# Altium footprint library 5013311207.PcbLib: 1 footprints
Each footprint in its own frame and in the unit in brackets; x right, y up, seen from the top. Pads: shape width x height; smd on the part's side, far side on the other; paste and mask are expansions set on the pad; w line width, h text height; cw(c..) or ccw(c..) is an arc to the next point about the centre after c.
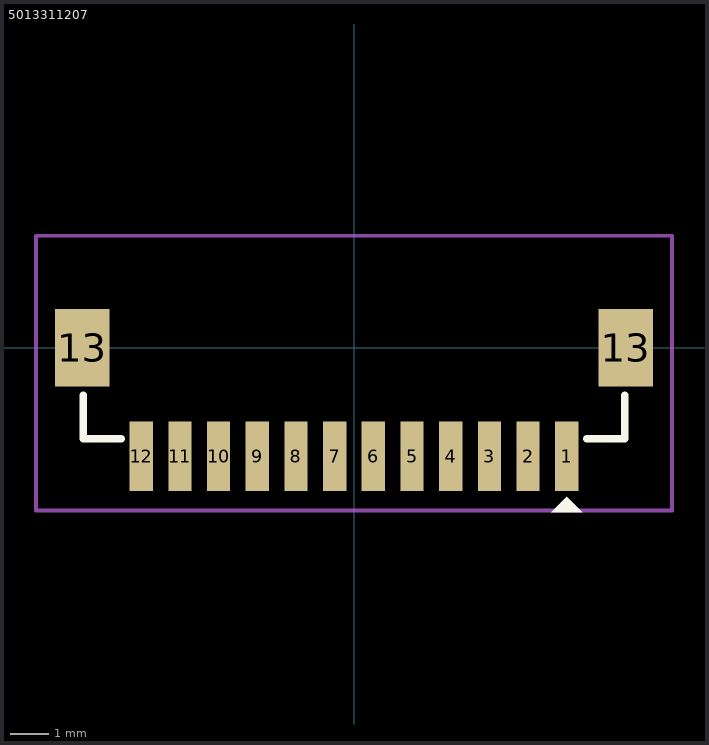
[diagram p0: the footprint, top view; thin cyan lines are the x and y axes]

## 5013311207 [mm]
pads (14):
  rect 0.6x1.8 smd: 1(5.5,-2.8) 2(4.5,-2.8) 3(3.5,-2.8) 4(2.5,-2.8) 5(1.5,-2.8) 6(0.5,-2.8) 7(-0.5,-2.8) 8(-1.5,-2.8) 9(-2.5,-2.8) 10(-3.5,-2.8) 11(-4.5,-2.8) 12(-5.5,-2.8)
  rect 1.4x2 smd: 13(-7.025,0) 13(7.025,0)
Top Overlay:
  region: 5.9,-4.25 5.1,-4.25 5.5,-3.85
  lines w0.2: -7,-1.225 -7,-2.35 -6.025,-2.35 ; 6.025,-2.35 7,-2.35 7,-1.225
Top Courtyard:
  lines w0.1: -8.225,-1 -8.225,-4.2 ; -8.225,-4.2 8.225,-4.2 8.225,2.9 -8.225,2.9 -8.225,-4.2
3D body "5013311207.stp": height 5.62, standoff 0.07, extent -7.115,-2.95 7.125,2.4